# Altium schematic symbol library converter.SchLib: 3 symbols
Pins are listed as number, name and electrical type; pins without a type are passive.

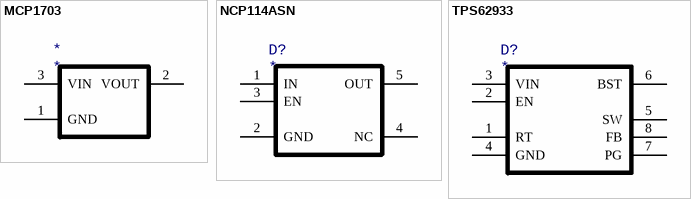
[diagram p0: symbols MCP1703 to TPS62933]

## MCP1703
designator *
pins: 1 GND, 2 VOUT, 3 VIN

## NCP114ASN
designator D?
pins: 1 IN, 2 GND, 3 EN, 4 NC, 5 OUT

## TPS62933
designator D?
pins: 1 RT, 2 EN, 3 VIN, 4 GND, 5 SW, 6 BST, 7 PG, 8 FB